# Altium schematic symbol library 691 323 100 0xx.SchLib: 6 symbols
Pins are listed as number, name and electrical type; pins without a type are passive.

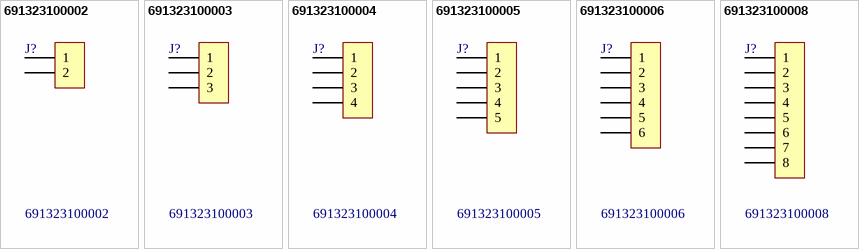
[diagram p0: symbols 691323100002 to 691323100008]

## 691323100002
designator J?
WR-TBL Terminal block - serie 3231 - 3.50 mm; Manufacturer: Würth Elektronik eiSos GmbH; ComponentLink1 Description: Manufacturer; ComponentLink2 Description: Datasheet; NoPins: 2; Created Date: 9 December 2013; partNo: 691323100002; ComponentLink1URL: http://www.we-online.com; ComponentLink2URL: http://katalog.we-online.de/em/datasheet/6913231000xx.pdf; Created by: Karrer Zheng
footprint 691323100002 (3,50mm - Vertical PCB Header with Flanges - 02p)
pins: 1, 2

## 691323100003
designator J?
WR-TBL Terminal block - serie 3231 - 3.50 mm; Manufacturer: Würth Elektronik eiSos GmbH; ComponentLink1 Description: Manufacturer; ComponentLink2 Description: Datasheet; NoPins: 3; Created Date: 9 December 2013; partNo: 691323100003; ComponentLink1URL: http://www.we-online.com; ComponentLink2URL: http://katalog.we-online.de/em/datasheet/6913231000xx.pdf; Created by: Karrer Zheng
footprint 691323100003 (3,50mm - Vertical PCB Header with Flanges - 03p)
pins: 1, 2, 3

## 691323100004
designator J?
WR-TBL Terminal block - serie 3231 - 3.50 mm; Manufacturer: Würth Elektronik eiSos GmbH; ComponentLink1 Description: Manufacturer; ComponentLink2 Description: Datasheet; NoPins: 4; Created Date: 9 December 2013; partNo: 691323100004; ComponentLink1URL: http://www.we-online.com; ComponentLink2URL: http://katalog.we-online.de/em/datasheet/6913231000xx.pdf; Created by: Karrer Zheng
footprint 691323100004 (3,50mm - Vertical PCB Header with Flanges - 04p)
pins: 1, 2, 3, 4

## 691323100005
designator J?
WR-TBL Terminal block - serie 3231 - 3.50 mm; Manufacturer: Würth Elektronik eiSos GmbH; ComponentLink1 Description: Manufacturer; ComponentLink2 Description: Datasheet; NoPins: 5; Created Date: 9 December 2013; partNo: 691323100005; ComponentLink1URL: http://www.we-online.com; ComponentLink2URL: http://katalog.we-online.de/em/datasheet/6913231000xx.pdf; Created by: Karrer Zheng
footprint 691323100005 (3,50mm - Vertical PCB Header with Flanges - 05p)
pins: 1, 2, 3, 4, 5

## 691323100006
designator J?
WR-TBL Terminal block - serie 3231 - 3.50 mm; Manufacturer: Würth Elektronik eiSos GmbH; ComponentLink1 Description: Manufacturer; ComponentLink2 Description: Datasheet; NoPins: 6; Created Date: 9 December 2013; partNo: 691323100006; ComponentLink1URL: http://www.we-online.com; ComponentLink2URL: http://katalog.we-online.de/em/datasheet/6913231000xx.pdf; Created by: Karrer Zheng
footprint 691323100006 (3,50mm - Vertical PCB Header with Flanges - 06p)
pins: 1, 2, 3, 4, 5, 6

## 691323100008
designator J?
WR-TBL Terminal block - serie 3231 - 3.50 mm; Manufacturer: Würth Elektronik eiSos GmbH; ComponentLink1 Description: Manufacturer; ComponentLink2 Description: Datasheet; NoPins: 8; Created Date: 9 December 2013; partNo: 691323100008; ComponentLink1URL: http://www.we-online.com; ComponentLink2URL: http://katalog.we-online.de/em/datasheet/6913231000xx.pdf; Created by: Karrer Zheng
footprint 691323100008 (3,50mm - Vertical PCB Header with Flanges - 08p)
pins: 1, 2, 3, 4, 5, 6, 7, 8